# EAGLE library part W25Q64JVSSIQ (library W25Q64JVSSIQ)
64Mb Serial NOR Flash 133MHz SOP8 Source: Datasheet <https://www.winbond.com/hq/search-resource-file.jsp?partNo=W25Q64JVSSIQ&type=datasheet>
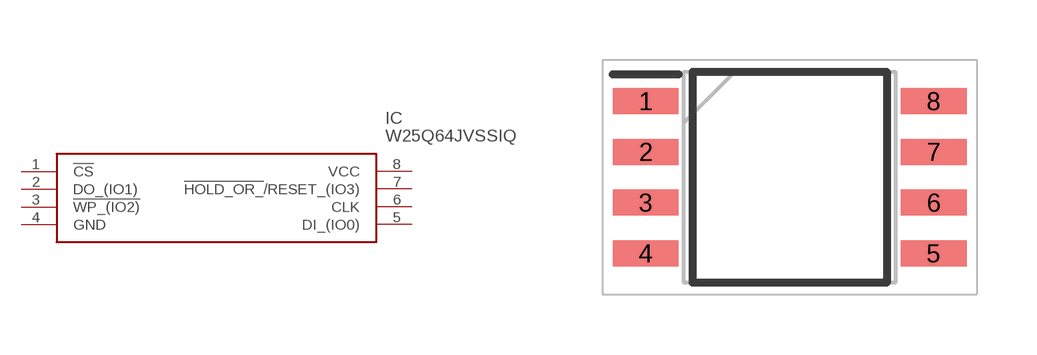
[diagram p0: symbol with the pads of SOIC127P790X216-8N; footprint SOIC127P790X216-8N]

Designator prefix IC

## W25Q64JVSSIQ (Arrow_Part_Number: W25Q64JVSSIQ; Arrow_Price-Stock: https://www.arrow.com/en/products/w25q64jvssiq/winbond-electronics?utm_currency=USD&region=nac; Description: 64Mb Serial NOR Flash 133MHz SOP8; Height: 2.16mm; Manufacturer_Name: Winbond; Manufacturer_Part_Number: W25Q64JVSSIQ; Mouser_Part_Number: 454-W25Q64JVSSIQ; Mouser_Price-Stock: https://www.mouser.co.uk/ProductDetail/Winbond/W25Q64JVSSIQ?qs=qSfuJ%252Bfl%2Fd4DecxlHDmB8w%3D%3D)  [SOIC127P790X216-8N]
1  !CS
2  DO_(IO1)
3  !WP_(IO2)
4  GND
5  DI_(IO0)
6  CLK
7  !HOLD_OR_!/RESET_(IO3)
8  VCC

## Footprint SOIC127P790X216-8N (pad centres in mm)
8-Pin SOIC 208-mil (Package Code SS)
smd 1.65 x 0.65: 1 -3.6,1.905; 2 -3.6,0.635; 3 -3.6,-0.635; 4 -3.6,-1.905; 5 3.6,-1.905; 6 3.6,-0.635; 7 3.6,0.635; 8 3.6,1.905